# EAGLE library part LTC4088 (library linear-technology)
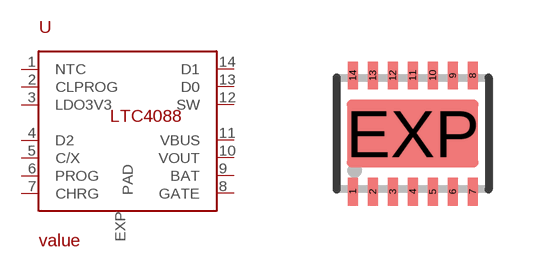
[diagram p27: symbol with the pads of DFN14-4X3; footprint DFN14-4X3]

Designator prefix -

## LTC4088  [DFN14-4X3]
1  NTC
2  CLPROG
3  LDO3V3
4  D2
5  C/X
6  PROG
7  CHRG
8  GATE
9  BAT
10  VOUT
11  VBUS
12  SW
13  D0
14  D1
EXP  PAD

## Footprint DFN14-4X3 (pad centres in mm)
14-Lead Plastic DFN (4mm × 3mm) (Reference LTC DWG # 05-08-1708 Rev B) Source: http://www.linear.com/pc/downloadDocument.do?navId=H0,C1,C1155,C1001,C1152,P36532,D19318
smd 0.25 x 0.7: 1 -1.5,-1.45; 2 -1,-1.45; 3 -0.5,-1.45; 4 0,-1.45; 5 0.5,-1.45; 6 1,-1.45; 7 1.5,-1.45; 8 1.5,1.45; 9 1,1.45; 10 0.5,1.45; 11 0,1.45; 12 -0.5,1.45; 13 -1,1.45; 14 -1.5,1.45
smd 3.3 x 1.7: EXP 0,0